# Altium footprint library Connector Display.PCBLIB: 2 footprints
Each footprint in its own frame and in the unit in brackets; x right, y up, seen from the top. Pads: shape width x height; smd on the part's side, far side on the other; paste and mask are expansions set on the pad; w line width, h text height; cw(c..) or ccw(c..) is an arc to the next point about the centre after c.
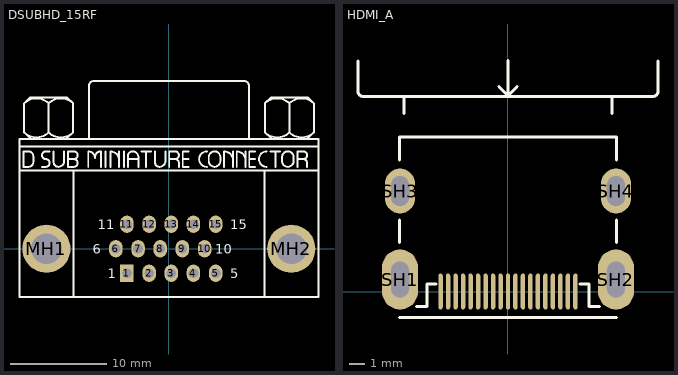
[diagram p0: the footprints below, top view; thin cyan lines are the x and y axes]

## DSUBHD_15RF [mm] "CONN, DSUB MINIATURE, HIGH DENSITY 15p, RightAngle, Female, VGA"
pads (17):
  rect 1.4x1.8 hole 1: 1(-4.35,-2.54)
  oval 1.4x1.8 hole 1: 2(-2.05,-2.54) 3(0.25,-2.54) 4(2.55,-2.54) 5(4.85,-2.54) 6(-5.5,0) 7(-3.2,0) 8(-0.9,0) 9(1.4,0) 10(3.7,0) 11(-4.35,2.54) 12(-2.05,2.54) 13(0.25,2.54) 14(2.55,2.54) 15(4.85,2.54)
  round 5 hole 3.2: MH1(-12.7,0) MH2(12.7,0)
TopOverlay:
  lines w0.2: -15.5,8.1 15.5,8.1 ; -15.5,10.6 15.5,10.6 ; -15.02,12.074 ccw(c-13.748,13.347) -12.476,12.074 ; -15.02,15.077 cw(c-13.748,13.805) -12.476,15.077 ; -14.383,11.442 -15.018,12.077 -15.018,15.075 -14.383,15.71 -10.573,15.71 -9.938,15.075 -9.938,12.077 -10.573,11.442 ; -13.163,8.5 -12.763,8.5 ccw(c-12.763,8.9) -12.363,8.9 ccw(c-12.763,8.9) -12.763,9.3 cw(c-12.763,9.7) -13.163,9.7 cw(c-12.763,9.7) -12.763,10.1 -12.363,10.1 ; -12.48,12.074 ccw(c-11.208,13.347) -9.936,12.074 ; -12.48,15.077 cw(c-11.208,13.805) -9.936,15.077 ; -12.478,12.074 -12.478,15.075 ; -11.963,10.1 -11.963,9 ccw(c-11.463,9) -11.463,8.5 ccw(c-11.463,9.1) -10.863,9.1 -10.863,10.1 ; -10.463,9.3 -9.863,9.3 ; -9.9,-5 -9.9,8.1 ; -8.363,8.5 -8.363,10.1 cw(c-8.363,9.4) -7.663,9.4 -7.663,9.5 cw(c-7.063,9.5) -7.063,10.1 -7.063,8.5 ; -8.3,11.4 -8.3,16.9 cw(c-7.8,16.9) -7.8,17.4 7.8,17.4 cw(c7.8,16.9) 8.3,16.9 8.3,11.4 ; -6.563,8.5 -6.563,10.1 ; -6.063,8.5 -6.063,10.1 cw(c-6.063,9.2) -5.163,9.2 ; -5.163,8.5 -5.163,9.2 ; -5.163,10.1 -5.163,9.2 ; -4.663,8.5 -4.663,10.1 ; -4.263,8.5 -4.263,9.6 cw(c-3.763,9.6) -3.763,10.1 cw(c-3.763,9.5) -3.163,9.5 -3.163,8.5 ; -4.263,9.3 -3.163,9.3 ; -2.863,10.1 -1.863,10.1 ; -2.413,10.1 cw(c-2.413,10.05) -2.363,10.05 -2.363,8.5 ; -1.463,10.1 -1.463,9 ccw(c-0.963,9) -0.963,8.5 ccw(c-0.963,9.1) -0.363,9.1 -0.363,10.1 ; 0.037,8.5 0.037,10.1 0.637,10.1 cw(c0.637,9.7) 1.037,9.7 cw(c0.637,9.7) 0.637,9.3 ; 0.037,9.3 0.637,9.3 ; 1.037,8.5 1.037,8.9 ccw(c0.637,8.9) 0.637,9.3 ; 1.437,9.3 2.037,9.3 ; 2.037,8.5 1.437,8.5 1.437,10.1 2.037,10.1 ; 3.937,8.5 cw(c3.937,9.3) 3.137,9.3 ; 3.937,10.1 ccw(c3.937,9.3) 3.137,9.3 ; 5.737,8.5 5.737,10.1 cw(c5.737,9.2) 6.637,9.2 ; 6.637,8.5 6.637,9.2 ; 6.637,10.1 6.637,9.2 ; 7.037,8.5 7.037,10.1 cw(c7.037,9.2) 7.937,9.2 ; 7.937,8.5 7.937,9.2 ; 7.937,10.1 7.937,9.2 ; 8.337,9.3 8.937,9.3 ; 8.937,8.5 8.337,8.5 8.337,10.1 8.937,10.1 ; 9.9,-5 9.9,8.1 ; 9.957,12.074 ccw(c11.229,13.347) 12.501,12.074 ; 9.957,15.077 cw(c11.229,13.805) 12.501,15.077 ; 9.959,12.074 9.959,15.075 10.594,15.71 14.404,15.71 15.039,15.075 15.039,12.038 ; 9.959,12.077 10.594,11.442 ; 10.137,8.5 cw(c10.137,9.3) 9.337,9.3 cw(c10.137,9.3) 10.137,10.1 ; 10.537,10.1 11.537,10.1 ; 11.037,8.5 11.037,10.05 ; 12.497,12.074 ccw(c13.769,13.347) 15.041,12.074 ; 12.497,15.077 cw(c13.769,13.805) 15.041,15.077 ; 12.499,12.074 12.499,15.075 ; 13.337,8.5 13.337,10.1 13.937,10.1 cw(c13.937,9.7) 14.337,9.7 cw(c13.937,9.7) 13.937,9.3 ; 13.337,9.3 13.937,9.3 ; 14.337,8.5 14.337,8.9 ccw(c13.937,8.9) 13.937,9.3 ; 14.404,11.442 15.039,12.077 ; -9.863,9.3 cw(c-9.863,8.9) -9.463,8.9 cw(c-9.863,8.9) -9.863,8.5 -10.463,8.5 -10.463,10.1 -9.863,10.1 cw(c-9.863,9.7) -9.463,9.7 cw(c-9.863,9.7) -9.863,9.3 ; 3.137,9.3 3.137,9.3 ; -15.5,-5 15.5,-5 15.5,11.4 -15.5,11.4 -15.5,-5 ; -15.063,8.5 -15.063,10.1 -14.563,10.1 cw(c-14.563,9.6) -14.063,9.6 -14.063,9 cw(c-14.563,9) -14.563,8.5 -15.063,8.5 ; 4.137,9.1 ccw(c4.737,9.1) 4.737,8.5 ccw(c4.737,9.1) 5.337,9.1 5.337,9.5 ccw(c4.737,9.5) 4.737,10.1 ccw(c4.737,9.5) 4.137,9.5 4.137,9.1 ; 11.737,9.1 ccw(c12.337,9.1) 12.337,8.5 ccw(c12.337,9.1) 12.937,9.1 12.937,9.5 ccw(c12.337,9.5) 12.337,10.1 ccw(c12.337,9.5) 11.737,9.5 11.737,9.1
  text "5" at 6.35,-3.048 h1
  text "10" at 4.826,-0.508 h1
  text "15" at 6.35,2.032 h1
  text "11" at -7.366,2.032 h1
  text "6" at -7.874,-0.508 h1
  text "1" at -6.35,-3.048 h1
3D body "SW3dPS-vga connector.STEP": height 14.3, standoff -0.79, extent -16.725,14.097 16.963,59.227
3D body "connector_a-hdf_15_a-kg_t.stp": height 12.67, standoff -4.5, extent -15.42,-4.7 15.42,17.2

## HDMI_A [mm] "CONN, HDMI, TYPE A, 19PIN"
pads (23):
  oval 0.3x2.4 smd mask+0.025: 1(-4.5,0) 2(-4,0) 3(-3.5,0) 4(-3,0) 5(-2.5,0) 6(-2,0) 7(-1.5,0) 8(-1,0) 9(-0.5,0) 10(0,0) 11(0.5,0) 12(1,0) 13(1.5,0) 14(2,0) 15(2.5,0) 16(3,0) 17(3.5,0) 18(4,0) 19(4.5,0)
  oval 2.4x4 hole 1.2 slot 2.4 at 90 deg: SH1(-7.2,0.8) SH2(7.2,0.8)
  oval 2x3 hole 1.2 slot 2 at 90 deg: SH3(-7.2,6.7) SH4(7.2,6.7)
TopOverlay:
  lines w0.2: -10,13.31 -10,15.36 ; -10,13.36 ccw(c-9.675,13.335) -9.7,13.01 9.7,13.01 ccw(c9.675,13.335) 10,13.36 10,15.36 ; -7.25,-1.74 7.25,-1.74 ; -7.25,3.26 -7.25,4.76 ; -7.25,8.76 -7.25,10.26 ; -7.25,10.31 7.2,10.31 7.25,10.26 7.25,8.76 ; -6.95,11.86 -6.95,13.01 ; -6.1,-1 -5.4,-1 -5.4,0.5 -4.8,0.5 ; -0.6,13.66 0,13.06 ; 0,15.41 0,13.06 ; 0.6,13.66 0,13.06 ; 4.8,0.5 5.4,0.5 5.4,-1 6.1,-1 ; 6.95,11.86 6.95,13.01 ; 7.25,3.26 7.25,4.76
Mechanical 29:
  text ".Designator" at -4.1,6.46 h1.52
3D body "685119134923.stp": height 6.17, standoff -2.21, extent -7.5,-0.75 7.5,11.4